# EAGLE library part OPENLOG_MINI (library open_hw_sockets)
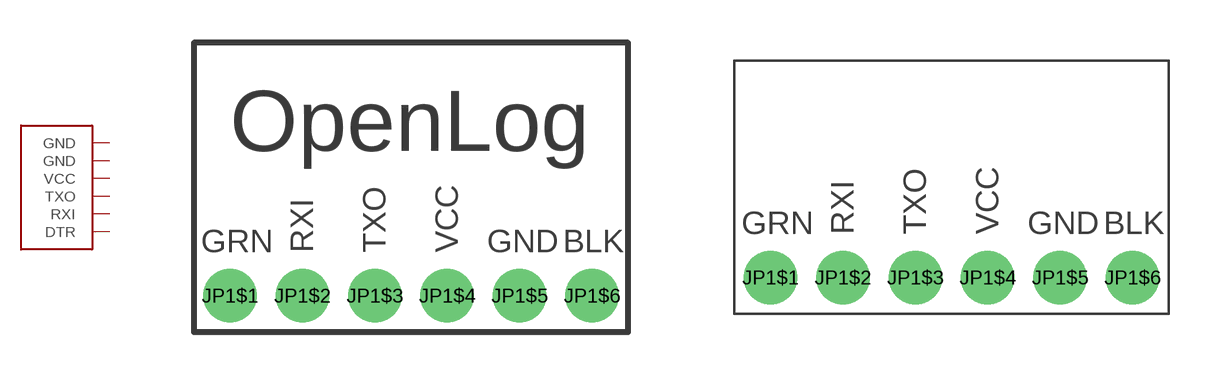
[diagram p6: symbol with the pads of OPENLOG_MIN; footprints OPENLOG_MIN, OPENLOG_TOP_MINI]

Designator prefix -

## OPENLOG_MINI  [OPENLOG_MIN]
JP1$1  DTR
JP1$2  RXI
JP1$3  TXO
JP1$4  VCC
JP1$5  GND
JP1$6  GND

## OPENLOG_MINITOP  [OPENLOG_TOP_MINI]
Pads as for OPENLOG_MIN

## Footprint OPENLOG_MIN (pad centres in mm)
drill 1.016 pad 1.88: JP1$1 1.27,1.27; JP1$2 3.81,1.27; JP1$3 6.35,1.27; JP1$4 8.89,1.27; JP1$5 11.43,1.27; JP1$6 13.97,1.27

## Footprint OPENLOG_TOP_MINI (pad centres in mm)
drill 1.016 pad 1.88: JP1$1 1.27,1.27; JP1$2 3.81,1.27; JP1$3 6.35,1.27; JP1$4 8.89,1.27; JP1$5 11.43,1.27; JP1$6 13.97,1.27